# Altium schematic symbol library SG_SCH_Main.SchLib: 29 symbols
Pins are listed as number, name and electrical type; pins without a type are passive.

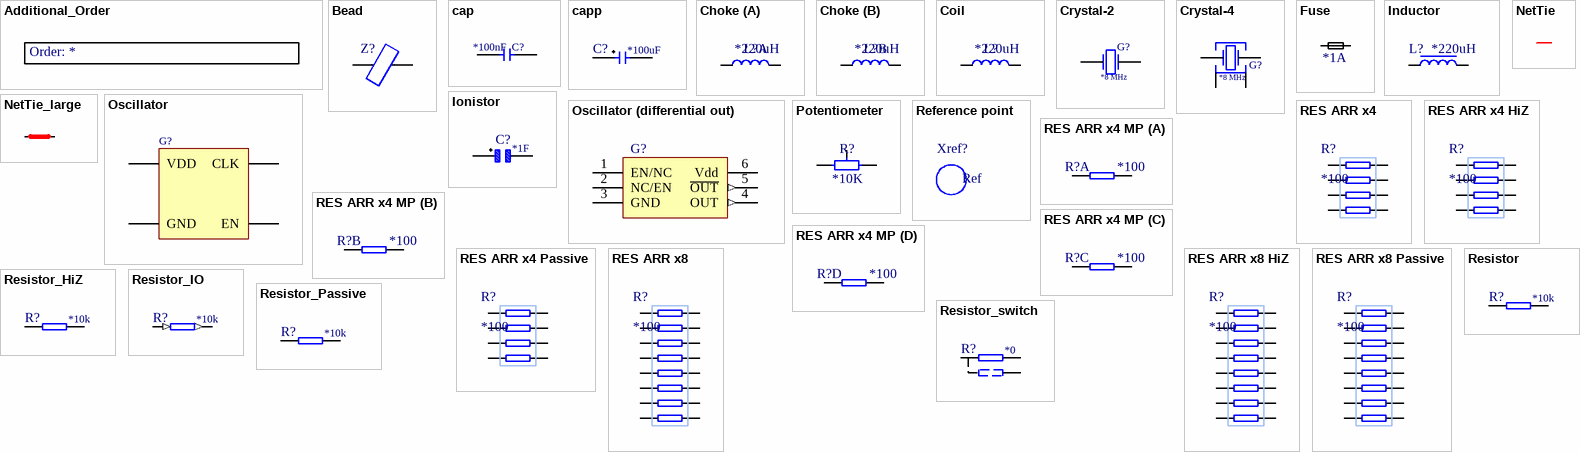
[diagram p0: symbols Additional_Order to Resistor_switch]

## Additional_Order
designator Additional order?, comment Additional order  (value not drawn)  (mechanical)
Order: *

## Bead
designator Z?  (value not drawn)
Ferrite bead; Order: *
footprint CHIP-0201
footprint CHIP-0402
footprint CHIP-0603
footprint CHIP-0805
footprint CHIP-1206
pins: 1, 2

## cap
designator C?, comment *100nF
Capacitor; Voltage: *V; Dielectric: *X5R; Tolerance: *%; OrderAdvanced: CERCAP *0603 *100nF *X5R *%; Order: =OrderSimple; Package: *0603; OrderSimple: =Footprint + ' ' + Value + ' ' + Voltage; Value: *100nF
footprint CERCAP 0402 (chip capacitor)
footprint CERCAP 0603 (Chip Capacitor, 2-Leads, Body 1,60x0,85mm, IPC Medium Density)
footprint CERCAP 0805 (Chip Capacitor, 2-Leads, Body 2,00x1,25mm, IPC Medium Density)
footprint CERCAP 1206 (Chip Capacitor, 2-Leads, Body 3,20x1,60mm, IPC Medium Density)
footprint CAP 13x5x11
footprint CAP PET 5x11x17.5MM
footprint CAP PET K73-17 W18 H12 T7.5 P15
footprint CAP PET K73-17 W26 H15 T9 P22.5
footprint CAP PET K73-17 21x10x23mm
pins: 1, 2

## capp
designator C?, comment *100uF
Capacitor; Voltage: *V; OrderAdvanced: TECAP *case A *100uF *%; Tolerance: *%; Order: =OrderSimple; OrderSimple: =Footprint + ' ' + Value + ' ' + Voltage; Package: *case A; Value: *100uF
footprint TECAP B
footprint TECAP A
footprint TECAP C
footprint TECAP D
footprint ECAP_SMD_0405
footprint ECAP_SMD_0505
footprint ECAP_SMD_0605
footprint ECAP_SMD_0810
footprint ECAP_SMD_1010
footprint ECAP RAD 0812
footprint ECAP RAD 1012
footprint TECAP-CL (Molded Capacitor, 2-Leads, Body 6,00x3,20mm, IPC High Density)
footprint TECAP-CN (Molded Capacitor, 2-Leads, Body 6,00x3,20mm, IPC Medium Density)
footprint TECAP-CM (Molded Capacitor, 2-Leads, Body 6,00x3,20mm, IPC Low Density)
footprint TECAP-AN (Molded Capacitor, 2-Leads, Body 3,20x1,60mm, IPC Medium Density)
footprint TECAP-AM (Molded Capacitor, 2-Leads, Body 3,20x1,60mm, IPC Low Density)
footprint TECAP-DL (Molded Capacitor, 2-Leads, Body 7,30x4,30mm, IPC High Density)
footprint TECAP-DM (Molded Capacitor, 2-Leads, Body 7,30x4,30mm, IPC Low Density)
footprint TECAP-DN (Molded Capacitor, 2-Leads, Body 7,30x4,30mm, IPC Medium Density)
footprint TECAP-BN (Molded Capacitor, 2-Leads, Body 3,50x2,80mm, IPC Medium Density)
footprint TECAP-BM (Molded Capacitor, 2-Leads, Body 3,50x2,80mm, IPC Low Density)
footprint TECAP-BL (Molded Capacitor, 2-Leads, Body 3,50x2,80mm, IPC High Density)
footprint TECAP E
footprint TECAP X
pins: 1 +, 2 -

## Choke
designator L?, comment *220uH
Inductor; Order: *; Value: *220uH
part A pins: 1, 2
part B pins: 3, 4

## Coil
designator L?, comment *220uH
Inductor; Order: *; Value: *220uH
footprint IND1210
footprint IND-0402L (Chip Capacitor, 2-Leads, Body 1,00x0,50mm, IPC High Density)
footprint IND-0402N (Chip Capacitor, 2-Leads, Body 1,00x0,50mm, IPC Medium Density)
footprint IND-0402M (Chip Capacitor, 2-Leads, Body 1,00x0,50mm, IPC Low Density)
footprint IND-0201L (Chip Inductor, 2-Leads, Body 0,51x0,25mm, IPC High Density)
footprint IND-0201M (Chip Inductor, 2-Leads, Body 0,51x0,25mm, IPC Low Density)
footprint IND-0201N (Chip Inductor, 2-Leads, Body 0,51x0,25mm, IPC Medium Density)
footprint IND-0603
footprint IND-0805
footprint IND-1206
footprint IND-2525
pins: 1 7, 2 8

## Crystal-2
designator G?  Frequency: *8 MHz
Quartz Crystal Resonator; Load Capacitance (CL): * pF; Order: ='Crystal ' + Footprint + ' ' + Value; Package: *; Value: ="Value" + "Load Capacitance (CL)" + "Package"
footprint crystal
footprint Clock Crystal
footprint HC49SMD
footprint SMD_2012_2N (DFN, 2-Leads, Body 1,20x2,00mm, Pitch 1,50mm, IPC Medium Density)
footprint SMD_3225_2N (DFN, 2-Leads, Body 2,50x3,20mm, Pitch 1,90mm, IPC Medium Density)
footprint SMD_3225_2N* (DFN, 2-Leads, Body 2,50x3,20mm, Pitch 1,90mm, IPC Medium Density)
pins: 1, 2

## Crystal-4
designator G?  Frequency: *8 MHz  (hidden comment: *)
Quartz Crystal Resonator; Load Capacitance (CL): * pF; Order: ='Crystal ' + Footprint + ' ' + Value; Package: *; Value: ="Value" + "Load Capacitance (CL)" + "Package"
footprint SMD_3225_4N (SON, 4-Leads, Body 3,20x2,50mm, Pitch 2,20mm, IPC Medium Density)
pins: 1, 2, 3, 4

## Fuse
designator FU?, comment *1A
Over current protect; Order: *; Value: *1A
footprint CHIP-0603
footprint CHIP-0805
footprint CHIP-1206
footprint CHIP-1812
footprint CHIP-1210
footprint CHIP-2010N
pins: 1 9, 2 9

## Inductor
designator L?, comment *220uH
Inductor; Order: *; Value: *220uH
footprint IND-1210 (Chip Inductor, 2-Leads, Body 3,20x2,50mm, IPC Medium Density)
footprint IND-0603
footprint IND-0805
footprint IND-1206
footprint IND-2525
footprint IND-7466L (Molded Inductor, 2-Leads, Body 7,40x6,60mm, IPC High Density)
footprint IND-7466N (Molded Inductor, 2-Leads, Body 7,40x6,60mm, IPC Medium Density)
footprint IND-7466M (Molded Inductor, 2-Leads, Body 7,40x6,60mm, IPC Low Density)
footprint LVF404018
footprint SRR-1206
footprint SRU-1063
footprint SRU-8028
pins: 1 7, 2 8

## Ionistor
designator C?, comment *1F
Super Capacitor; Voltage: *V; Order: *; Value: *1F
footprint Ionistor-6.8x1.4mm
pins: 1 + (power), 2 - (power)

## NetTie
designator JT?  (net tie, no BOM)
Order: NONE
footprint NetTie-0402
footprint NetTie-0603
pins: 1, 2

## NetTie_large
designator JT?  (net tie, no BOM)
Order: NONE
footprint NetTie-0402
footprint NetTie-0603
pins: 1, 2

## Oscillator
designator G?, comment Osc  (value not drawn)
Quartz crystal clock oscillators XO (SPXO); Order: *
footprint KD-VB3M18
footprint SMD_7050_4M (SON, 4-Leads, Body 7,00x5,00mm, Pitch 5,08mm, IPC Low Density)
footprint SMD_7050_4N (SON, 4-Leads, Body 7,00x5,00mm, Pitch 5,08mm, IPC Medium Density)
footprint SMD_7050_4L (SON, 4-Leads, Body 7,00x5,00mm, Pitch 5,08mm, IPC High Density)
footprint SMD_3225_4N (SON, 4-Leads, Body 3,20x2,50mm, Pitch 2,20mm, IPC Medium Density)
footprint SMD_3225_4M (SON, 4-Leads, Body 3,20x2,50mm, Pitch 2,20mm, IPC Low Density)
footprint SMD_3225_4L (SON, 4-Leads, Body 3,20x2,50mm, Pitch 2,20mm, IPC High Density)
footprint SMD_2016_4L (QFN, 4-Leads, Body 2,00x1,60mm, Pitch 1,35mm/1,05mm, IPC High Density)
footprint SMD_2016_4N (QFN, 4-Leads, Body 2,00x1,60mm, Pitch 1,35mm/1,05mm, IPC Medium Density)
footprint SMD_2016_4M (QFN, 4-Leads, Body 2,00x1,60mm, Pitch 1,35mm/1,05mm, IPC Low Density)
pins: 1 EN, 2 GND, 3 CLK, 4 VDD

## Oscillator (differential out)
designator G?  (value not drawn)
6pin oscillator with complementary output; Order: *
footprint CDFN-6 (Footprint not found)
pins: 1 EN/NC, 2 NC/EN, 3 GND (power), 4 OUT (out), 5 ~{OUT} (out), 6 Vdd (power)

## Potentiometer
designator R?  value *10K
Potentiometer; Order: *
footprint Potentiometer1 (Potentiometer 2,54)
footprint Potentiometer2 (Potentiometer 5,08)
footprint Potentiometer3 (Potentiometer 5,08 vertical)
footprint 3296W-1-203LF
pins: 1, 2, 3

## Reference point
designator Xref?, comment Reference point for pick and place  (value not drawn)
Reference point - to set coordinate system in a pick and place device; Order: *Reference Point x
footprint Xref1th
footprint Xref2th
footprint Xref3th
footprint xref1smd
footprint xref2smd
footprint xref3smd
text: Ref

## RES ARR x4
designator R?, comment *100
Resistor array x4; Order: *; Value: *100
footprint CHIP-0402x4L (Chip Array, Concave, 8-Leads, Pitch 0,50mm,  Body 2,00x1,00mm,  IPC High Density)
footprint CHIP-0402x4N (Chip Array, Concave, 8-Leads, Pitch 0,50mm,  Body 2,00x1,00mm,  IPC Medium Density)
footprint CHIP-0402x4M (Chip Array, Concave, 8-Leads, Pitch 0,50mm,  Body 2,00x1,00mm,  IPC Low Density)
footprint CHIP-0603x4N (Chip Array, Concave, 8-Leads, Pitch 0,80mm,  Body 3,20x1,60mm,  IPC Medium Density)
footprint CHIP-0603x4M (Chip Array, Concave, 8-Leads, Pitch 0,80mm,  Body 3,20x1,60mm,  IPC Low Density)
footprint CHIP-0603x4L (Chip Array, Concave, 8-Leads, Pitch 0,80mm,  Body 3,20x1,60mm,  IPC High Density)
pins: 1 (hiz), 2 (hiz), 3 (hiz), 4 (hiz), 5 (hiz), 6 (hiz), 7 (hiz), 8 (hiz)

## RES ARR x4 HiZ
designator R?, comment *100
Resistor array x4; Order: *; Value: *100
footprint CHIP-0402x4L (Chip Array, Concave, 8-Leads, Pitch 0,50mm,  Body 2,00x1,00mm,  IPC High Density)
footprint CHIP-0402x4N (Chip Array, Concave, 8-Leads, Pitch 0,50mm,  Body 2,00x1,00mm,  IPC Medium Density)
footprint CHIP-0402x4M (Chip Array, Concave, 8-Leads, Pitch 0,50mm,  Body 2,00x1,00mm,  IPC Low Density)
footprint CHIP-0603x4N (Chip Array, Concave, 8-Leads, Pitch 0,80mm,  Body 3,20x1,60mm,  IPC Medium Density)
footprint CHIP-0603x4M (Chip Array, Concave, 8-Leads, Pitch 0,80mm,  Body 3,20x1,60mm,  IPC Low Density)
footprint CHIP-0603x4L (Chip Array, Concave, 8-Leads, Pitch 0,80mm,  Body 3,20x1,60mm,  IPC High Density)
pins: 1 (hiz), 2 (hiz), 3 (hiz), 4 (hiz), 5 (hiz), 6 (hiz), 7 (hiz), 8 (hiz)

## RES ARR x4 MP
designator R?, comment *100
Resistor array x4; Order: *; Value: *100
footprint CHIP-0402x4L (Chip Array, Concave, 8-Leads, Pitch 0,50mm,  Body 2,00x1,00mm,  IPC High Density)
footprint CHIP-0402x4N (Chip Array, Concave, 8-Leads, Pitch 0,50mm,  Body 2,00x1,00mm,  IPC Medium Density)
footprint CHIP-0402x4M (Chip Array, Concave, 8-Leads, Pitch 0,50mm,  Body 2,00x1,00mm,  IPC Low Density)
footprint CHIP-0603x4N (Chip Array, Concave, 8-Leads, Pitch 0,80mm,  Body 3,20x1,60mm,  IPC Medium Density)
footprint CHIP-0603x4M (Chip Array, Concave, 8-Leads, Pitch 0,80mm,  Body 3,20x1,60mm,  IPC Low Density)
footprint CHIP-0603x4L (Chip Array, Concave, 8-Leads, Pitch 0,80mm,  Body 3,20x1,60mm,  IPC High Density)
part A pins: 1 (hiz), 8 (hiz)
part B pins: 2 (hiz), 7 (hiz)
part C pins: 3 (hiz), 6 (hiz)
part D pins: 4 (hiz), 5 (hiz)

## RES ARR x4 Passive
designator R?, comment *100
Resistor array x4; Order: *; Value: *100
footprint CHIP-0402x4L (Chip Array, Concave, 8-Leads, Pitch 0,50mm,  Body 2,00x1,00mm,  IPC High Density)
footprint CHIP-0402x4N (Chip Array, Concave, 8-Leads, Pitch 0,50mm,  Body 2,00x1,00mm,  IPC Medium Density)
footprint CHIP-0402x4M (Chip Array, Concave, 8-Leads, Pitch 0,50mm,  Body 2,00x1,00mm,  IPC Low Density)
footprint CHIP-0603x4N (Chip Array, Concave, 8-Leads, Pitch 0,80mm,  Body 3,20x1,60mm,  IPC Medium Density)
footprint CHIP-0603x4M (Chip Array, Concave, 8-Leads, Pitch 0,80mm,  Body 3,20x1,60mm,  IPC Low Density)
footprint CHIP-0603x4L (Chip Array, Concave, 8-Leads, Pitch 0,80mm,  Body 3,20x1,60mm,  IPC High Density)
pins: 1, 2, 3, 4, 5, 6, 7, 8

## RES ARR x8
designator R?, comment *100
Resistor array x8; Order: *; Value: *100
footprint CHIP-0402x4N (Chip Array, Concave, 8-Leads, Pitch 0,50mm,  Body 2,00x1,00mm,  IPC Medium Density)
pins: 1 (hiz), 2 (hiz), 3 (hiz), 4 (hiz), 5 (hiz), 6 (hiz), 7 (hiz), 8 (hiz), 9 (hiz), 10 (hiz), 11 (hiz), 12 (hiz), 13 (hiz), 14 (hiz), 15 (hiz), 16 (hiz)

## RES ARR x8 HiZ
designator R?, comment *100
Resistor array x8; Order: *; Value: *100
footprint CHIP-0402x4N (Chip Array, Concave, 8-Leads, Pitch 0,50mm,  Body 2,00x1,00mm,  IPC Medium Density)
pins: 1, 2, 3, 4, 5, 6, 7, 8, 9, 10, 11, 12, 13, 14, 15, 16

## RES ARR x8 Passive
designator R?, comment *100
Resistor array x8; Order: *; Value: *100
footprint CHIP-0402x4N (Chip Array, Concave, 8-Leads, Pitch 0,50mm,  Body 2,00x1,00mm,  IPC Medium Density)
pins: 1, 2, 3, 4, 5, 6, 7, 8, 9, 10, 11, 12, 13, 14, 15, 16

## Resistor
designator R?, comment *10k
Resistor; OrderAdvanced: RES *0603 *10k *%; Tolerance: *%; Order: =OrderSimple; OrderSimple: =Footprint + ' ' + Value; Package: *0603; Value: *10k
footprint RES_MLT_1W (Footprint not found)
footprint RES AXIAL 1W VERTICAL
footprint RES-0402L (Chip Resistor, 2-Leads, Body 1,00x0,50mm, IPC High Density)
footprint RES-0402N (Chip Resistor, 2-Leads, Body 1,00x0,50mm, IPC Medium Density)
footprint RES-0603N (Chip Resistor, 2-Leads, Body 1,60x0,85mm, IPC Medium Density)
footprint RES-0603M (Chip Resistor, 2-Leads, Body 1,60x0,85mm, IPC Low Density)
footprint RES-0603L (Chip Resistor, 2-Leads, Body 1,60x0,85mm, IPC High Density)
footprint RES-0402M (Chip Resistor, 2-Leads, Body 1,00x0,50mm, IPC Low Density)
footprint RES-0805N (Chip Resistor, 2-Leads, Body 2,10x1,30mm, IPC Medium Density)
footprint RES-0805M (Chip Resistor, 2-Leads, Body 2,10x1,30mm, IPC Low Density)
footprint RES-0805L (Chip Resistor, 2-Leads, Body 2,10x1,30mm, IPC High Density)
footprint RES-1206L (Chip Resistor, 2-Leads, Body 3,10x1,60mm, IPC High Density)
footprint RES-1206N (Chip Resistor, 2-Leads, Body 3,10x1,60mm, IPC Medium Density)
footprint RES-1206M (Chip Resistor, 2-Leads, Body 3,10x1,60mm, IPC Low Density)
footprint RES 0603 (==RES-0603N)
footprint RES 0402 (== RES-0402N)
footprint RES 0805 (== RES-0805N)
footprint RES 1206 (Chip Resistor, 2-Leads, Body 3,10x1,60mm, IPC Medium Density)
pins: 1 11 (hiz), 2 12 (hiz)

## Resistor_HiZ
designator R?, comment *10k
Resistor; OrderAdvanced: RES *0603 *10k *%; Tolerance: *%; Order: =OrderSimple; OrderSimple: =Footprint + ' ' + Value; Package: *0603; Value: *10k
footprint RES_MLT_1W (Footprint not found)
footprint RES AXIAL 1W VERTICAL
footprint RES-0402L (Chip Resistor, 2-Leads, Body 1,00x0,50mm, IPC High Density)
footprint RES-0402N (Chip Resistor, 2-Leads, Body 1,00x0,50mm, IPC Medium Density)
footprint RES-0603N (Chip Resistor, 2-Leads, Body 1,60x0,85mm, IPC Medium Density)
footprint RES-0603M (Chip Resistor, 2-Leads, Body 1,60x0,85mm, IPC Low Density)
footprint RES-0603L (Chip Resistor, 2-Leads, Body 1,60x0,85mm, IPC High Density)
footprint RES-0402M (Chip Resistor, 2-Leads, Body 1,00x0,50mm, IPC Low Density)
footprint RES-0805N (Chip Resistor, 2-Leads, Body 2,10x1,30mm, IPC Medium Density)
footprint RES-0805M (Chip Resistor, 2-Leads, Body 2,10x1,30mm, IPC Low Density)
footprint RES-0805L (Chip Resistor, 2-Leads, Body 2,10x1,30mm, IPC High Density)
footprint RES-1206L (Chip Resistor, 2-Leads, Body 3,10x1,60mm, IPC High Density)
footprint RES-1206N (Chip Resistor, 2-Leads, Body 3,10x1,60mm, IPC Medium Density)
footprint RES-1206M (Chip Resistor, 2-Leads, Body 3,10x1,60mm, IPC Low Density)
footprint RES 0603 (==RES-0603N)
footprint RES 0402 (== RES-0402N)
footprint RES 0805 (== RES-0805N)
footprint RES 1206 (Chip Resistor, 2-Leads, Body 3,10x1,60mm, IPC Medium Density)
pins: 1 11 (hiz), 2 12 (hiz)

## Resistor_IO
designator R?, comment *10k
Resistor with marked input and output; OrderAdvanced: RES *0603 *10k *%; Tolerance: *%; Order: =OrderSimple; OrderSimple: =Footprint + ' ' + Value; Package: *0603; Value: *10k
footprint RES_MLT_1W (Footprint not found)
footprint RES AXIAL 1W VERTICAL
footprint RES-0402L (Chip Resistor, 2-Leads, Body 1,00x0,50mm, IPC High Density)
footprint RES-0402N (Chip Resistor, 2-Leads, Body 1,00x0,50mm, IPC Medium Density)
footprint RES-0603N (Chip Resistor, 2-Leads, Body 1,60x0,85mm, IPC Medium Density)
footprint RES-0603M (Chip Resistor, 2-Leads, Body 1,60x0,85mm, IPC Low Density)
footprint RES-0603L (Chip Resistor, 2-Leads, Body 1,60x0,85mm, IPC High Density)
footprint RES-0402M (Chip Resistor, 2-Leads, Body 1,00x0,50mm, IPC Low Density)
footprint RES-0805N (Chip Resistor, 2-Leads, Body 2,10x1,30mm, IPC Medium Density)
footprint RES-0805M (Chip Resistor, 2-Leads, Body 2,10x1,30mm, IPC Low Density)
footprint RES-0805L (Chip Resistor, 2-Leads, Body 2,10x1,30mm, IPC High Density)
footprint RES-1206L (Chip Resistor, 2-Leads, Body 3,10x1,60mm, IPC High Density)
footprint RES-1206N (Chip Resistor, 2-Leads, Body 3,10x1,60mm, IPC Medium Density)
footprint RES-1206M (Chip Resistor, 2-Leads, Body 3,10x1,60mm, IPC Low Density)
footprint RES 0603 (==RES-0603N)
footprint RES 0402 (== RES-0402N)
footprint RES 0805 (== RES-0805N)
footprint RES 1206 (Chip Resistor, 2-Leads, Body 3,10x1,60mm, IPC Medium Density)
pins: 1 11 (in), 2 12 (out)

## Resistor_Passive
designator R?, comment *10k
Resistor; OrderAdvanced: RES *0603 *10k *%; Tolerance: *%; Order: =OrderSimple; OrderSimple: =Footprint + ' ' + Value; Package: *0603; Value: *10k
footprint RES_MLT_1W (Footprint not found)
footprint RES AXIAL 1W VERTICAL
footprint RES-0402L (Chip Resistor, 2-Leads, Body 1,00x0,50mm, IPC High Density)
footprint RES-0402N (Chip Resistor, 2-Leads, Body 1,00x0,50mm, IPC Medium Density)
footprint RES-0603N (Chip Resistor, 2-Leads, Body 1,60x0,85mm, IPC Medium Density)
footprint RES-0603M (Chip Resistor, 2-Leads, Body 1,60x0,85mm, IPC Low Density)
footprint RES-0603L (Chip Resistor, 2-Leads, Body 1,60x0,85mm, IPC High Density)
footprint RES-0402M (Chip Resistor, 2-Leads, Body 1,00x0,50mm, IPC Low Density)
footprint RES-0805N (Chip Resistor, 2-Leads, Body 2,10x1,30mm, IPC Medium Density)
footprint RES-0805M (Chip Resistor, 2-Leads, Body 2,10x1,30mm, IPC Low Density)
footprint RES-0805L (Chip Resistor, 2-Leads, Body 2,10x1,30mm, IPC High Density)
footprint RES-1206L (Chip Resistor, 2-Leads, Body 3,10x1,60mm, IPC High Density)
footprint RES-1206N (Chip Resistor, 2-Leads, Body 3,10x1,60mm, IPC Medium Density)
footprint RES-1206M (Chip Resistor, 2-Leads, Body 3,10x1,60mm, IPC Low Density)
footprint RES 0603 (==RES-0603N)
footprint RES 0402 (== RES-0402N)
footprint RES 0805 (== RES-0805N)
footprint RES 1206 (Chip Resistor, 2-Leads, Body 3,10x1,60mm, IPC Medium Density)
pins: 1 11, 2 12

## Resistor_switch
designator R?, comment *0
Resistor; OrderAdvanced: *RES 0603 *0; Tolerance: *%; Order: =OrderAdvanced; OrderSimple: =Footprint + ' ' + Value; Package: *RES 0603; Value: *0
footprint RES 0402 Switchable 90deg (chip res)
footprint RES 0603 Switchable 90deg (Chip, 2-Leads, Body 1,60x0,85mm, IPC Medium Density)
footprint RES 0805 Switchable 90deg (Chip, 2-Leads, Body 2,00x1,25mm, IPC Medium Density)
pins: 1 11 (hiz), 2 12 (hiz), 3 13 (hiz)